# EAGLE library part IV-11 (library boztalay)
IV-11 VFD Tube
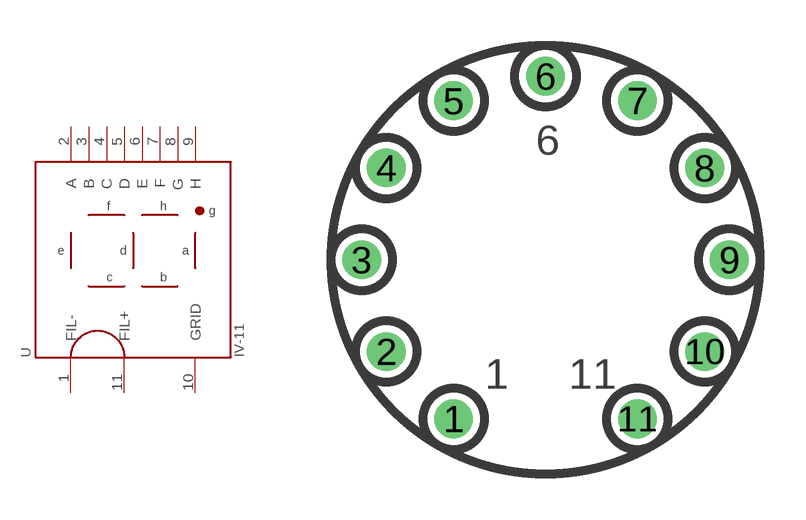
[diagram p0: symbol with the pads of IV-11; footprint IV-11]

Designator prefix -

## IV-11  [IV-11]
1  FIL-
2  A
3  B
4  C
5  D
6  E
7  F
8  G
9  H
10  GRID
11  FIL+

## Footprint IV-11 (pad centres in mm)
IV-11 VFD Tube Footprint
drill 0.6 pad 1.27: 1 -3.015,-5.223; 2 -5.223,-3.015; 3 -6.03,0; 4 -5.223,3.015; 5 -3.015,5.223; 6 0,6.03; 7 3.015,5.223; 8 5.223,3.015; 9 6.03,0; 10 5.223,-3.015; 11 3.015,-5.223